# EAGLE library part PCD8544 (library PCD8544)
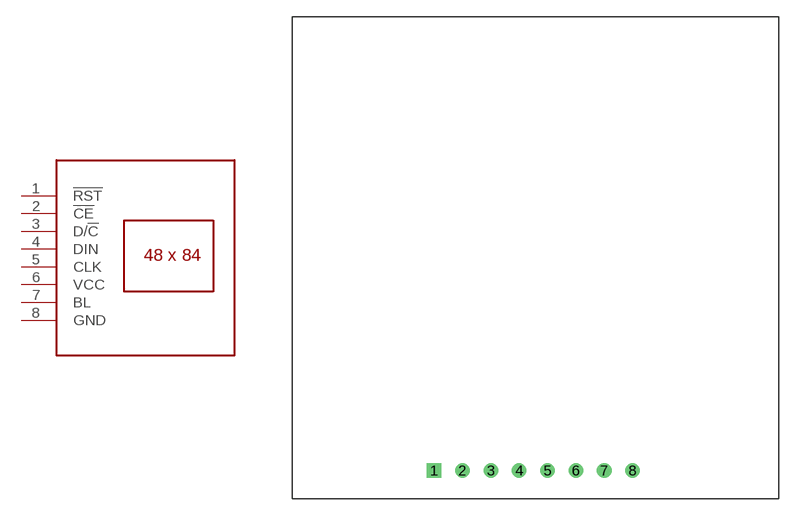
[diagram p0: symbol with the pads of PCD8544_BTM; footprint PCD8544_BTM]

Designator prefix DISP

## PCD8544  [PCD8544_BTM]
1  !RST  in
2  !CE  in
3  D/!C  in
4  DIN  in
5  CLK  in
6  VCC  pwr
7  BL  in
8  GND  pwr

## Footprint PCD8544_BTM (pad centres in mm)
PCD8544 with header on the bottom edge
drill 0.8 square: 1 -7.62,3.81
drill 0.8: 2 -5.08,3.81; 3 -2.54,3.81; 4 0,3.81; 5 2.54,3.81; 6 5.08,3.81; 7 7.62,3.81; 8 10.16,3.81